# Altium schematic symbol library crystals_oscillators.schlib: 13 symbols
Pins are listed as number, name and electrical type; pins without a type are passive.

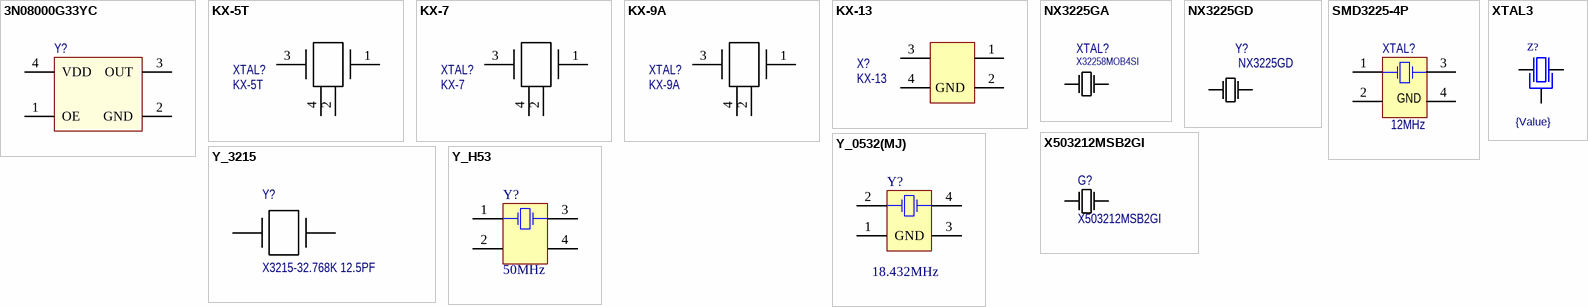
[diagram p0: symbols 3N08000G33YC to Y_H53]

## 3N08000G33YC
designator Y?  (value not drawn)
Crystal Oscillator
footprint SMD3225-4P
pins: 1 OE, 2 GND, 3 OUT, 4 VDD

## KX-5T
designator XTAL?
Quartz
footprint KX - 5T (Quartz)
pins: 1, 2 GND, 3, 4 5

## KX-7
designator XTAL?
Quartz
footprint KX - 7 (Quartz)
pins: 1, 2 GND, 3, 4 5

## KX-9A
designator XTAL?
Quartz
footprint KX - 9A (Quartz)
pins: 1, 2 GND, 3, 4 5

## KX-13
designator X?
Quartz
footprint KX - 13
pins: 1, 2 GND, 3, 4 5

## NX3225GA
designator XTAL?, comment X32258MOB4SI
Crystal Oscillator; Part: X32258MOB4SI; Alternative Part: *
footprint NX3225GA
pins: 1 OSC1, 3 OSC2

## NX3225GD
designator Y?
Crystal Oscillator
footprint NX3225GD
pins: 1 OSC1, 2 OSC2

## SMD3225-4P
designator XTAL?, comment 12MHz
Crystal Oscillator; Part: X322512MSB4SI; Alternative Part: *; Value: 12MHz
footprint NX3225GA
pins: 1 OSC1, 2 GND, 3 OSC2, 4 GND

## X503212MSB2GI
designator G?
Crystal Oscillator; Manufacturer_Name: Yangxing Tech; Geometry.Height: 1.35mm; Manufacturer_Part_Number: X503212MSB2GI; Part: X503212MSB2GI; Mouser Price/Stock: *; Alternative Part: *; Arrow Price/Stock: *; Datasheet Link: https://datasheet.lcsc.com/szlcsc/Yangxing-Tech-X503212MSB2GI_C112573.pdf
footprint X5032
pins: 1, 2

## XTAL3
designator Z?  value {Value}  (hidden comment: *)
XTAL3
footprint HC-49-S3
pins: 1, 2, 3

## Y_0532(MJ)
designator Y?, comment 18.432MHz
Crystal Oscillator; Value: 18.432MHz
footprint 0532(MJ) (Surface Mount Quartz Crystal; Body 5.0 x 3.2 mm (LxW))
pins: 1 GND, 2 OSC1, 3 GND, 4 OSC2

## Y_3215
designator Y?, comment X3215-32.768K 12.5PF
Crystal Oscillator; Value: X3215-32.768K 12.5PF
footprint x3215 (crystal oscillator 32kHz)
pins: 0 OSC1, 1 OSC2

## Y_H53
designator Y?, comment 50MHz
Quartz Generator; Value: 50MHz
footprint 05H32 (Surface Mount Quartz Generator; Body 5.0 x 3.2 mm (LxW))
pins: 1 OSC1, 2 NC, 3 OSC2, 4 NC